# Altium footprint library MISC.PcbLib: 21 footprints (part 1 of 2)
Each footprint in its own frame and in the unit in brackets; x right, y up, seen from the top. Pads: shape width x height; smd on the part's side, far side on the other; paste and mask are expansions set on the pad; w line width, h text height; cw(c..) or ccw(c..) is an arc to the next point about the centre after c.
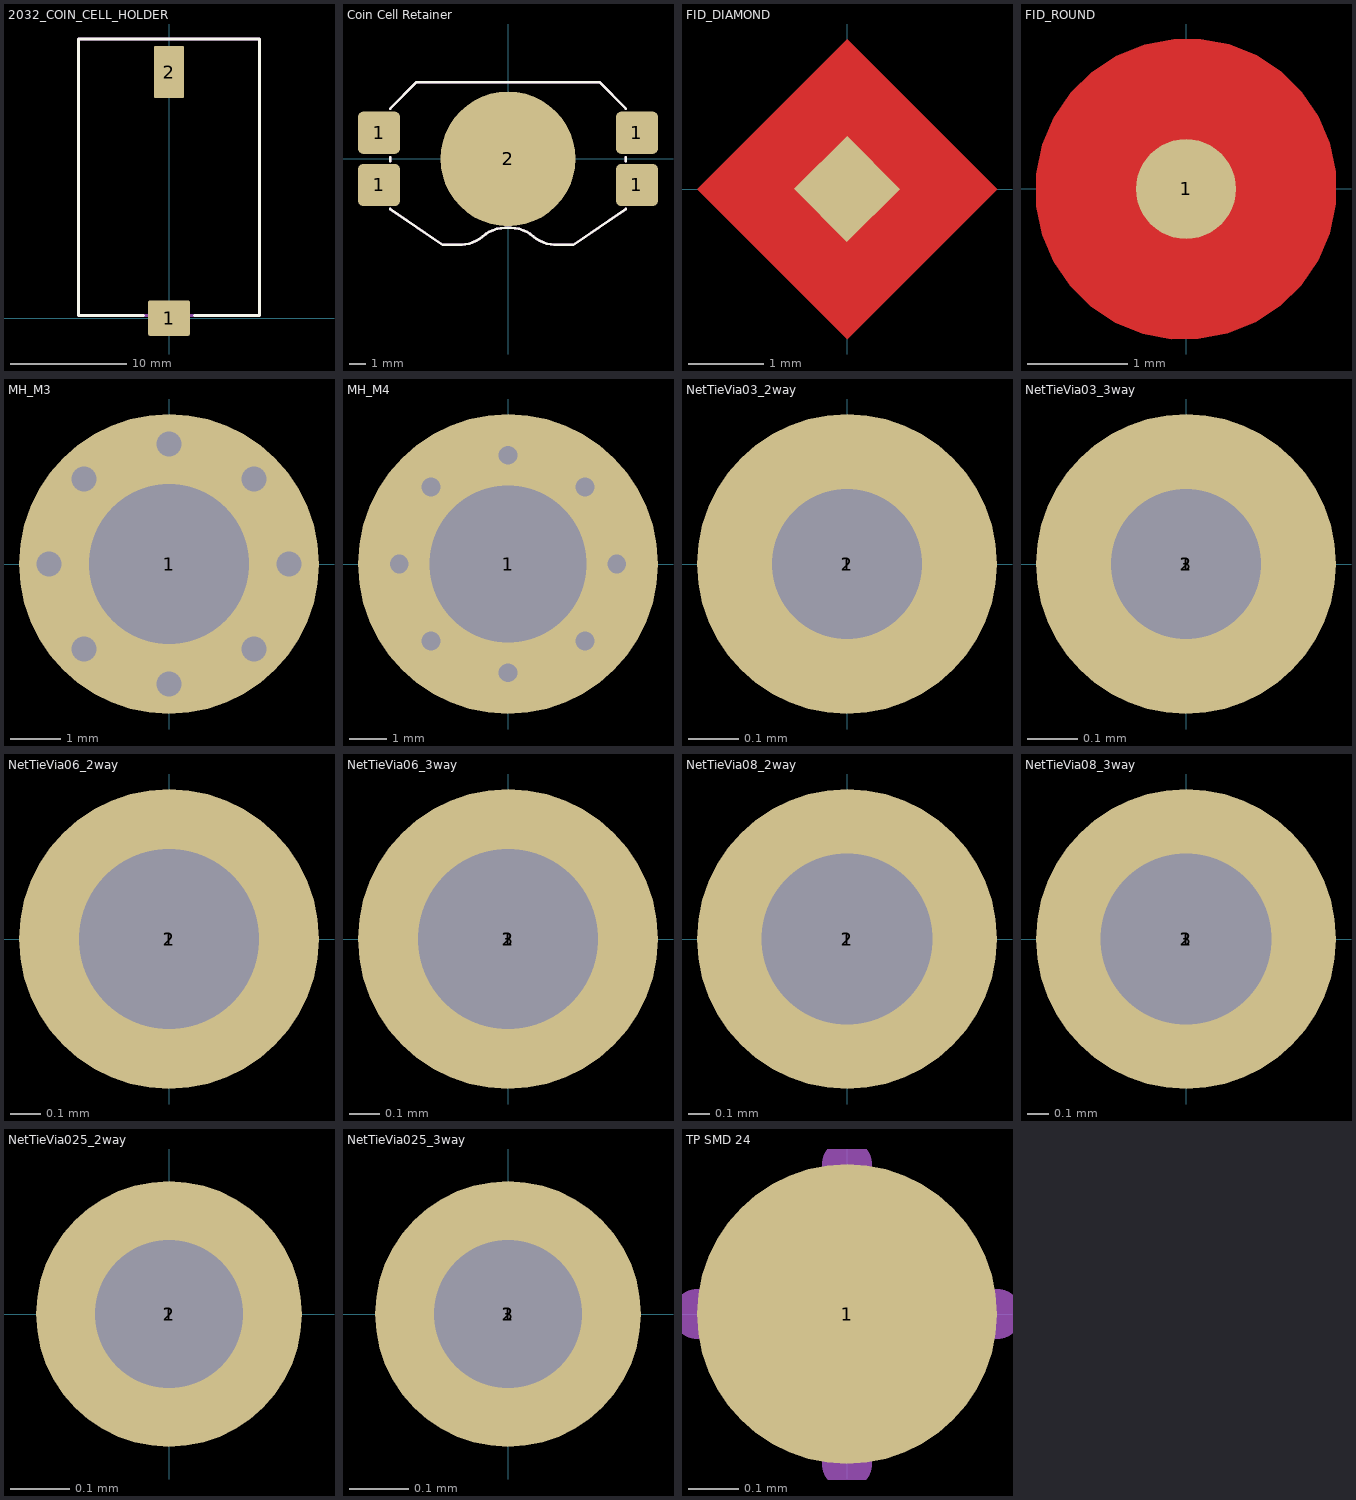
[diagram p0: the footprints below, top view; thin cyan lines are the x and y axes]

## 2032_COIN_CELL_HOLDER [mm]
pads (2):
  rrect10% 3.6x3.05 smd: 1(0,0)
  rrect10% 2.6x4.5 smd: 2(0,21.175)
Top Overlay:
  lines w0.254: -2.2,0.227 -7.8,0.227 -7.8,24.017 7.8,24.017 7.8,0.227 2.2,0.227
Mechanical 13:
  lines w0.254: -7.8,0.227 -7.8,24.017 7.8,24.017 7.8,0.227 -7.8,0.227
Mechanical 29:
  text "'.Designator'" at 0.46,6.786 h2.03
3D body "s8421-45r_asm.stp": height 5.31, standoff -0.02, extent -7.797,-0.5 7.798,24.15

## Coin Cell Retainer [mm] "Coin Cell Retainer 12mm"
pads (5):
  rrect25% 2.5x2.5 smd: 1(-7.65,-1.55) 1(-7.65,1.55) 1(7.65,-1.55) 1(7.65,1.55)
  round 8 smd: 2(0,0)
Top Overlay:
  lines w0.15: -7,-2.969 -3.875,-5.102 -2.75,-5.102 ccw(c-2.86,-3.014) -1.5,-4.602 cw(c-0.164,-6.11) -0.175,-4.095 0.175,-4.095 cw(c0.164,-6.11) 1.5,-4.602 ccw(c2.86,-3.014) 2.75,-5.102 3.875,-5.102 7,-2.969 ; -7,-0.152 -7,0.098 ; -7,2.973 -5.423,4.55 5.423,4.55 7,2.973 ; 7,-0.152 7,0.098
Mechanical 15:
  lines w0.1: -0.3,0 0.3,0 ; 0,-0.3 0,0.3
Mechanical 29:
  lines w0.15: -7,-2.969 -3.875,-5.102 -2.75,-5.102 ccw(c-2.86,-3.014) -1.5,-4.602 cw(c-0.164,-6.11) -0.175,-4.095 0.175,-4.095 cw(c0.164,-6.11) 1.5,-4.602 ccw(c2.86,-3.014) 2.75,-5.102 3.875,-5.102 7,-2.969 ; -7,-0.152 -7,0.098 ; -7,2.973 -5.423,4.55 5.423,4.55 7,2.973 ; 7,-0.152 7,0.098
  text "'.Designator'" at -4.914,-0.634 h2.03
3D body "BK-916.STEP": height 3.82, standoff 0.01, extent -7.747,-5.102 7.747,4.55

## FID_DIAMOND [mm]
pads (1):
  rect 1x1 smd rot 135 paste+0 mask+1: ""(0,0)
Top Layer:
  pour cut-out: 0,2 2,0 0,-2 -2,0

## FID_ROUND [mm]
pads (1):
  round 1 smd paste-1 mask+1: 1(0,0)
Top Layer:
  pour cut-out: 0,1.5 0.147,1.501 0.434,1.446 0.706,1.336 0.951,1.175 1.16,0.97 1.325,0.727 1.439,0.458 1.499,0.171 1.5,0.024 1.5,0 1.499,-0.149 1.438,-0.441 1.322,-0.715 1.155,-0.961 0.943,-1.17 0.694,-1.334 0.418,-1.445 0.125,-1.501 -0.024,-1.5 0,-1.5 -0.147,-1.501 -0.434,-1.446 -0.706,-1.336 -0.951,-1.175 -1.16,-0.97 -1.325,-0.727 -1.439,-0.458 -1.499,-0.171 -1.5,-0.024 -1.5,0 -1.499,0.149 -1.438,0.441 -1.322,0.715 -1.155,0.961 -0.943,1.17 -0.694,1.334 -0.418,1.445 -0.125,1.501 0.024,1.5

## MH_M3 [mm] "SCREW mouting, M3, 3.0mm diameter and 6.0mm PanHead"
pads (1):
  round 6 / inner round 3.5 / far side round 6 hole 3.2 mask+0.1: 1(0,0)
via 0,2.4 diameter 0.8 hole 0.5
via 0,-2.4 diameter 0.8 hole 0.5
via 1.697,-1.697 diameter 0.8 hole 0.5
via -1.697,1.697 diameter 0.8 hole 0.5
via 2.4,0 diameter 0.8 hole 0.5
via -2.4,0 diameter 0.8 hole 0.5
via 1.697,1.697 diameter 0.8 hole 0.5
via -1.697,-1.697 diameter 0.8 hole 0.5

## MH_M4 [mm] "SCREW mouting, M4, 4mm diameter and 8.0mm PanHead"
pads (1):
  round 8 / inner round 4.5 / far side round 8 hole 4.2 mask+0.1: 1(0,0)
via 0,2.9 diameter 0.8 hole 0.5
via 0,-2.9 diameter 0.8 hole 0.5
via 2.051,-2.051 diameter 0.8 hole 0.5
via -2.051,2.051 diameter 0.8 hole 0.5
via 2.9,0 diameter 0.8 hole 0.5
via -2.9,0 diameter 0.8 hole 0.5
via 2.051,2.051 diameter 0.8 hole 0.5
via -2.051,-2.051 diameter 0.8 hole 0.5

## NetTieVia03_2way [mm] "Net Tie Via 0.3mm"
height 0.025
pads (2):
  round 0.6 hole 0.3: 1(0,0) 2(0,0)

## NetTieVia03_3way [mm] "Net Tie Via 0.3mm"
height 0.025
pads (3):
  round 0.6 hole 0.3: 1(0,0) 2(0,0) 3(0,0)

## NetTieVia06_2way [mm] "Net Tie Via 0.6mm"
height 0.025
pads (2):
  round 1 hole 0.6: 1(0,0) 2(0,0)

## NetTieVia06_3way [mm] "Net Tie Via 0.6mm"
height 0.025
pads (3):
  round 1 hole 0.6: 1(0,0) 2(0,0) 3(0,0)

## NetTieVia08_2way [mm] "Net Tie Via 0.8mm"
height 0.025
pads (2):
  round 1.4 hole 0.8: 1(0,0) 2(0,0)

## NetTieVia08_3way [mm] "Net Tie Via 0.8mm"
height 0.025
pads (3):
  round 1.4 hole 0.8: 1(0,0) 2(0,0) 3(0,0)

## NetTieVia025_2way [mm]
pads (2):
  round 0.45 hole 0.25: 1(0,0) 2(0,0)

## NetTieVia025_3way [mm]
pads (3):
  round 0.45 hole 0.25: 1(0,0) 2(0,0) 3(0,0)

## RCM_CABLE_3P [mm]
3D body "Baseboard_RCM_Cable_3P.stp": height 33.5, standoff -2.08, extent -33.544,-2.895 43.743,44.824

## TP SMD 24 [mm] "TP SMD R24"
pads (1):
  round 0.6 smd mask+0.05: 1(0,0)
Mechanical 15:
  lines w0.1: -0.3,0 0.3,0 ; 0,-0.3 0,0.3